# Altium footprint library DPSP_Switch.PcbLib: 1 footprints
Each footprint in its own frame and in the unit in brackets; x right, y up, seen from the top. Pads: shape width x height; smd on the part's side, far side on the other; paste and mask are expansions set on the pad; w line width, h text height; cw(c..) or ccw(c..) is an arc to the next point about the centre after c.
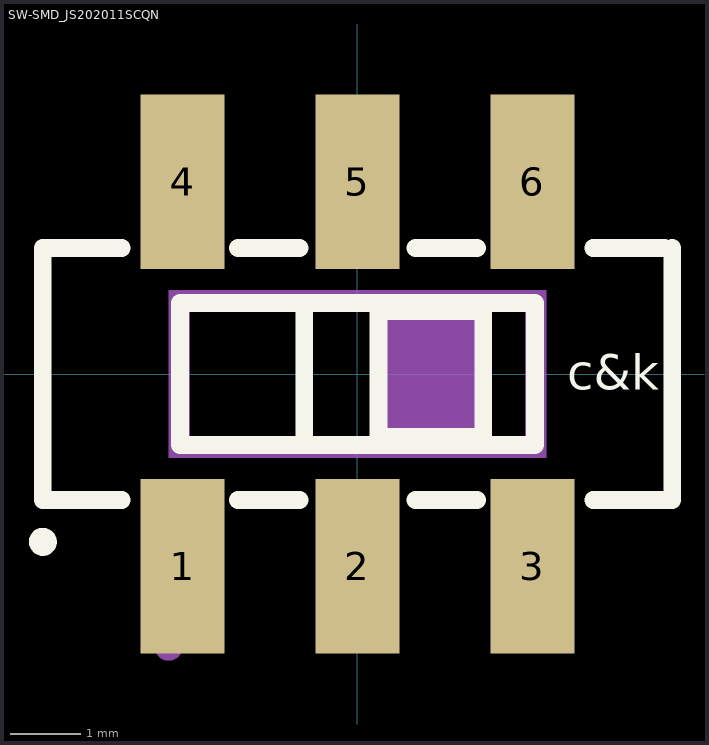
[diagram p0: the footprint, top view; thin cyan lines are the x and y axes]

## SW-SMD_JS202011SCQN [mm]
pads (6):
  rect 1.2x2.5 smd paste+0 mask+0.051: 1(-2.5,-2.75) 2(0,-2.75) 3(2.5,-2.75) 4(-2.5,2.75) 5(0,2.75) 6(2.5,2.75)
Top Overlay:
  circle w0.2: c-4.5,-2.4 r0.1
  lines w0.254: -3.371,-1.8 -4.5,-1.8 -4.5,1.8 -3.371,1.8 ; -1.709,-1.8 -0.831,-1.8 ; -1.709,1.8 -0.831,1.8 ; -0.762,-1.016 -0.762,1.016 ; 0.831,-1.8 1.709,-1.8 ; 0.831,1.8 1.709,1.8 ; 3.371,-1.8 4.5,-1.8 4.5,1.8 ; 3.371,1.8 4.392,1.8 ; -2.54,-1.016 2.54,-1.016 2.54,1.016 -2.54,1.016 -2.54,-1.016 ; 0.3,-0.9 1.8,-0.9 1.8,0.9 0.3,0.9 0.3,-0.9
  text "c&k" at 3,-0.223 h0.5
Mechanical 15:
  circle w0.2: c-2.7,-3.9 r0.1
  region: -2.7,-1.2 -2.7,1.2 -2.4,1.2 -2.4,-1.2
  region: -2.7,1.2 -2.7,0.9 2.7,0.9 2.7,1.2
  region: 2.4,-1.2 2.7,-1.2 2.7,1.2 2.4,1.2
  region: -2.7,-1.2 -2.7,-0.9 2.7,-0.9 2.7,-1.2
  region: 0.3,0.9 0.3,-0.9 1.8,-0.9 1.8,0.9
3D body "JS202011SCQN.STEP": height 5.51, standoff 0, extent -4.496,-3.746 4.496,3.746